# Altium footprint library XT9S20ANA16M.PcbLib: 2 footprints
Each footprint in its own frame and in the unit in brackets; x right, y up, seen from the top. Pads: shape width x height; smd on the part's side, far side on the other; paste and mask are expansions set on the pad; w line width, h text height; cw(c..) or ccw(c..) is an arc to the next point about the centre after c.
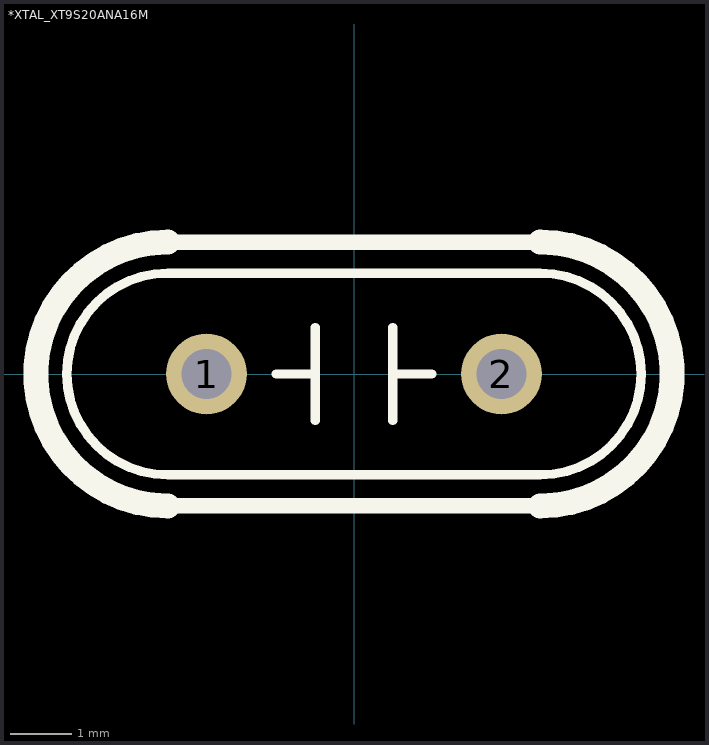
[diagram p0: the footprints below, top view; thin cyan lines are the x and y axes]

## *XTAL_XT9S20ANA16M [mil]
pads (2):
  round 52 hole 32: 1(-95,0) 2(95,0)
Top Overlay:
  lines w6: -50,0 -25,0 ; -25,-30 -25,0 ; -25,30 -25,0 ; 25,-30 25,0 ; 25,30 25,0 ; 50,0 25,0 ; -120,-65 cw(c-120,0) -120,65 120,65 cw(c120,0) 120,-65 -120,-65
  lines w10: -120,-85 120,-85 ; -120,85 120,85
  lines w16: -120,-85 cw(c-120,0) -120,85 ; 120,-85 ccw(c120,0) 120,85

## PCBComponent_1 [mil]